# Altium schematic symbol library Schematics.SchLib: 7 symbols
Pins are listed as number, name and electrical type; pins without a type are passive.

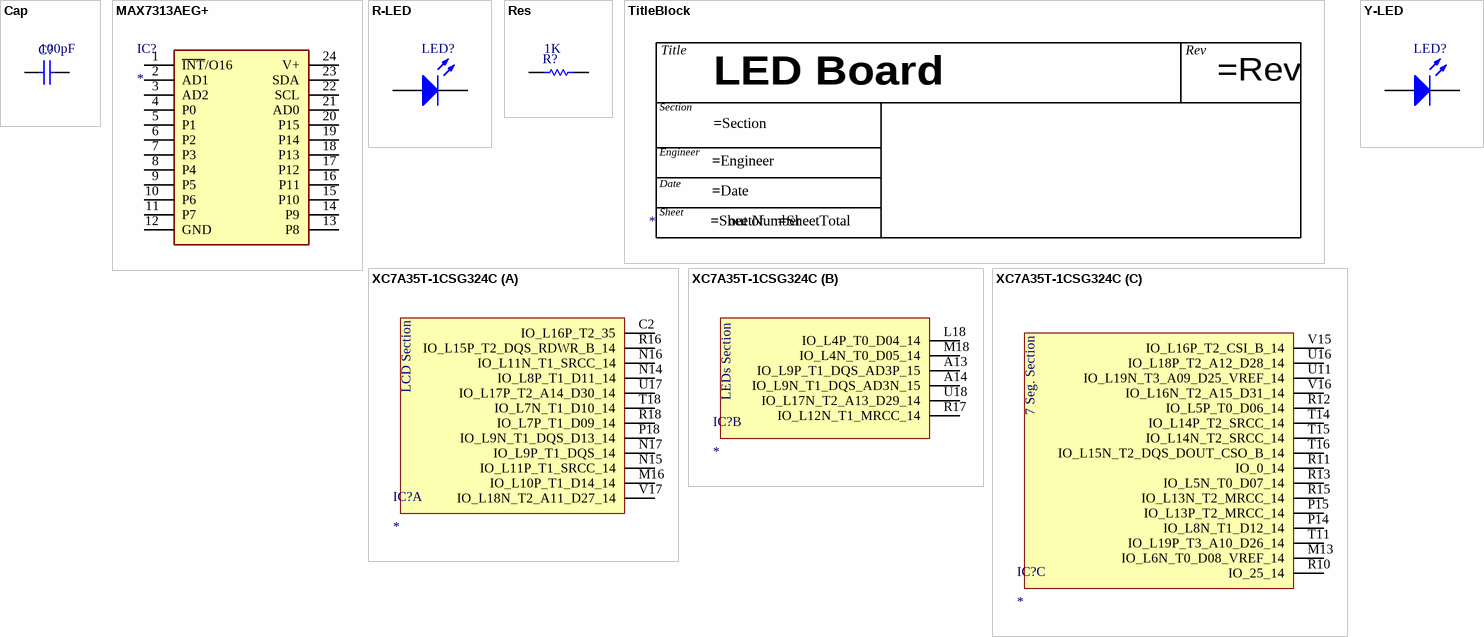
[diagram p0: symbols Cap to Y-LED]

## Cap
designator C?  value 100pF
Capacitor; Published: 8-Jun-2000; LatestRevisionDate: 17-Jul-2002; LatestRevisionNote: Re-released for DXP Platform.; PackageReference: RAD-0.3; Publisher: Altium Limited; PackageDescription: Radial Cap, Thru-Hole; 2 Leads; 0.3 in Pin Spacing
footprint CAP 0805
pins: 1, 2

## MAX7313AEG+
designator IC?
GPIO Port Expander; Manufacturer_Name: Maxim Integrated; Manufacturer_Part_Number: MAX7313AEG+; Datasheet Link: http://datasheets.maximintegrated.com/en/ds/MAX7313.pdf; Height: 1.75mm; Mouser Part Number: 700-MAX7313AEG; Mouser Price/Stock: https://www.mouser.co.uk/ProductDetail/Maxim-Integrated/MAX7313AEG%2b?qs=LHmEVA8xxfbu9TMdrEq27g%3D%3D; RS Part Number: 1900494P; RS Price/Stock: http://uk.rs-online.com/web/p/products/1900494P
footprint 16 bit GPIO Expander - duplicate (SOP64P602X175-24N)
pins: 1 ~{INT}/O16, 2 AD1, 3 AD2, 4 P0, 5 P1, 6 P2, 7 P3, 8 P4, 9 P5, 10 P6, 11 P7, 12 GND (power), 13 P8, 14 P9, 15 P10, 16 P11, 17 P12, 18 P13, 19 P14, 20 P15, 21 AD0, 22 SCL, 23 SDA, 24 V+

## R-LED
designator LED?
Red LED; Published: 8-Jun-2000; LatestRevisionDate: 08-Jul-2005; LatestRevisionNote: Mech Layer 1 removed.; Publisher: Altium Limited; PackageDescription: LED; 2 Leads; PackageReference: LED-0
footprint LED RED 0805
pins: A, K

## Res
designator R?  value 1K
Resistor; Published: 8-Jun-2000; LatestRevisionDate: 17-Jul-2002; LatestRevisionNote: Re-released for DXP Platform.; PackageReference: AXIAL-0.3; Publisher: Altium Limited; PackageDescription: Axial Device, Thru-Hole; 2 Leads; 0.3 in Pin Spacing
footprint RES 0805
pins: 1, 2

## TitleBlock
designator *, comment Title Block  (value not drawn)  (graphical)
text: Title; Rev; LED Board; Section; Engineer; Date; Sheet; out of

## XC7A35T-1CSG324C
designator IC?
Integrated Circuit; Manufacturer_Name: XILINX; Manufacturer_Part_Number: XC7A35T-1CSG324C; Datasheet Link: http://www.xilinx.com/support/documentation/data_sheets/ds180_7Series_Overview.pdf; Height: 1.5mm; Mouser Part Number: 217-XC7A35T-1CSG324C; Mouser Price/Stock: https://www.mouser.co.uk/ProductDetail/Xilinx/XC7A35T-1CSG324C?qs=rrS6PyfT74cxvR58nHYPWA%3D%3D
part A pins: C2 IO_L16P_T2_35, M16 IO_L10P_T1_D14_14, N14 IO_L8P_T1_D11_14, N15 IO_L11P_T1_SRCC_14, N16 IO_L11N_T1_SRCC_14, N17 IO_L9P_T1_DQS_14, P18 IO_L9N_T1_DQS_D13_14, R16 IO_L15P_T2_DQS_RDWR_B_14, R18 IO_L7P_T1_D09_14, T18 IO_L7N_T1_D10_14, U17 IO_L17P_T2_A14_D30_14, V17 IO_L18N_T2_A11_D27_14
part B pins: A13 IO_L9P_T1_DQS_AD3P_15, A14 IO_L9N_T1_DQS_AD3N_15, L18 IO_L4P_T0_D04_14, M18 IO_L4N_T0_D05_14, R17 IO_L12N_T1_MRCC_14, U18 IO_L17N_T2_A13_D29_14
part C pins: M13 IO_L6N_T0_D08_VREF_14, P14 IO_L8N_T1_D12_14, P15 IO_L13P_T2_MRCC_14, R10 IO_25_14, R11 IO_0_14, R12 IO_L5P_T0_D06_14, R13 IO_L5N_T0_D07_14, R15 IO_L13N_T2_MRCC_14, T11 IO_L19P_T3_A10_D26_14, T14 IO_L14P_T2_SRCC_14, T15 IO_L14N_T2_SRCC_14, T16 IO_L15N_T2_DQS_DOUT_CSO_B_14, U11 IO_L19N_T3_A09_D25_VREF_14, U16 IO_L18P_T2_A12_D28_14, V15 IO_L16P_T2_CSI_B_14, V16 IO_L16N_T2_A15_D31_14
part A text: LCD Section
part B text: LEDs Section
part C text: 7 Seg. Section

## Y-LED
designator LED?
Yellow LED; Published: 8-Jun-2000; LatestRevisionDate: 08-Jul-2005; LatestRevisionNote: Mech Layer 1 removed.; Publisher: Altium Limited; PackageDescription: LED; 2 Leads; PackageReference: LED-0
footprint LED YELLOW 0805
pins: A, K